# Altium footprint library 2021-03-04_21-34-13.PcbLib: 1 footprints
Each footprint in its own frame and in the unit in brackets; x right, y up, seen from the top. Pads: shape width x height; smd on the part's side, far side on the other; paste and mask are expansions set on the pad; w line width, h text height; cw(c..) or ccw(c..) is an arc to the next point about the centre after c.
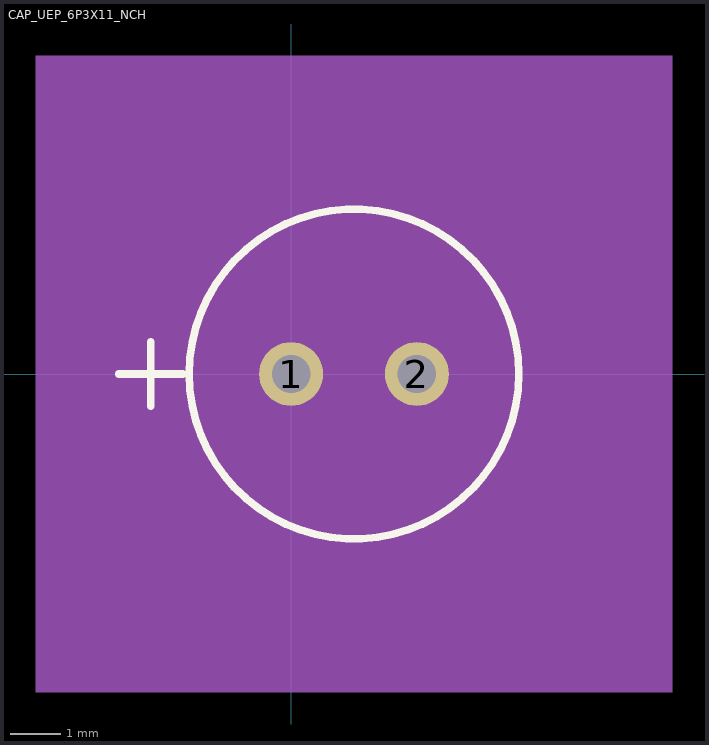
[diagram p0: the footprint, top view; thin cyan lines are the x and y axes]

## CAP_UEP_6P3X11_NCH [mil]
pads (2):
  round 50 hole 30 mask+0: 1(0,0) 2(98.43,0)
Top Overlay:
  circle w6: c49.21,0 r129
  lines w6: -134.79,0 -84.79,0 ; -109.79,-25 -109.79,25
Mechanical 5:
  region: 298.21,-249 -199.79,-249 -199.79,249 298.21,249
Mechanical 7:
  lines w1: -74.79,0 -74.79,189 ; -50,-174 0,-174 ; 0,-189 0,0 ; 49.21,-124 238.21,-124 ; 49.21,124 238.21,124 ; 98.43,-189 98.43,0 ; 148.43,-174 98.43,-174 ; 173.21,0 173.21,189 ; -74.79,174 173.21,174 ; -74.79,174 -64.79,179 -64.79,169 -74.79,174 ; 0,-174 -10,-169 -10,-179 0,-174 ; 98.43,-174 108.43,-169 108.43,-179 98.43,-174 ; 173.21,174 163.21,179 163.21,169 173.21,174 ; 223.21,-124 223.21,124 ; 223.21,-124 218.21,-114 228.21,-114 223.21,-124 ; 223.21,124 218.21,114 228.21,114 223.21,124
  text "Default Pad Style: EX50Y50D30P" at -325.79,-399 h50
  text "Alt 1 Pad Style: OX60Y90D30P" at -300.79,-474 h50
  text "Alt 2 Pad Style: OX90Y60D30P" at -300.79,-549 h50
  text "0.098in/2.5mm" at -32.04,-219 h25
  text "0.248in/6.299mm" at -44.54,194 h25
  text "0.248in/6.299mm" at 243.21,-12.5 h25
Mechanical 13:
  circle w0: c49.21,0 r124
  lines w1: -134.79,0 -84.79,0 ; -109.79,-25 -109.79,25
Mechanical 15:
  region: -84.79,55.18 -5.96,134 104.39,134 183.21,55.18 183.21,-55.18 104.39,-134 -5.96,-134 -84.79,-55.18
  lines w1: -84.79,-55.18 -5.96,-134 104.39,-134 183.21,-55.18 183.21,55.18 104.39,134 -5.96,134 -84.79,55.18 -84.79,-55.18
3D body: height 10, standoff 0, extent 0,0 10,10